# Altium footprint library GoldFinger_PcbLib.PcbLib: 14 footprints
Each footprint in its own frame and in the unit in brackets; x right, y up, seen from the top. Pads: shape width x height; smd on the part's side, far side on the other; paste and mask are expansions set on the pad; w line width, h text height; cw(c..) or ccw(c..) is an arc to the next point about the centre after c.
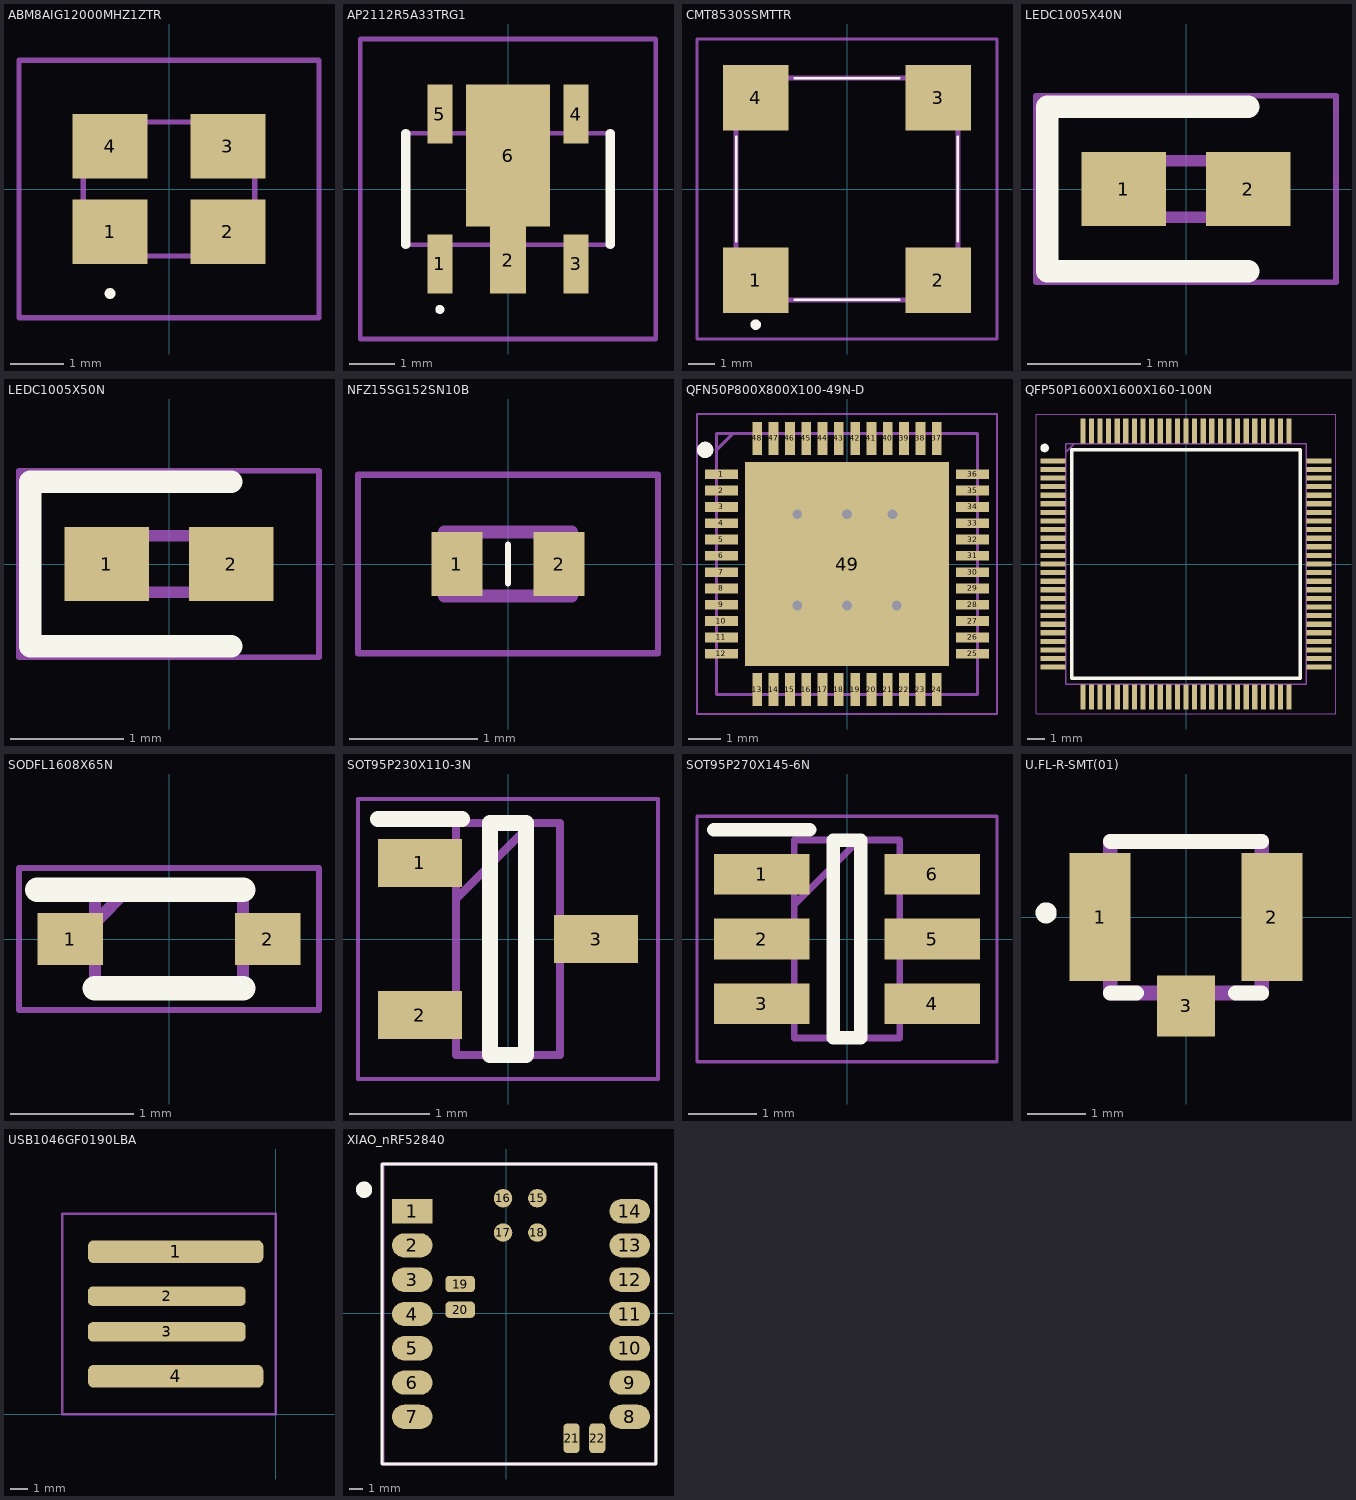
[diagram p0: the footprints below, top view; thin cyan lines are the x and y axes]

## ABM8AIG12000MHZ1ZTR [mm]
pads (4):
  rect 1.4x1.2 smd: 1(-1.1,-0.8) 2(1.1,-0.8) 3(1.1,0.8) 4(-1.1,0.8)
Top Overlay:
  lines w0.1: -1.1,-2 cw(c-1.1,-1.95) -1.1,-1.9 cw(c-1.1,-1.95) -1.1,-2
Mechanical 13:
  lines w0.1: -1.6,-1.25 -1.6,1.25 1.6,1.25 1.6,-1.25 -1.6,-1.25
Mechanical 15:
  lines w0.1: -2.8,-2.4 -2.8,2.4 2.8,2.4 2.8,-2.4 -2.8,-2.4
3D body "ABM8AIG-12.000MHZ-1Z-TR.stp": height 0.9, standoff 0, extent -1.68,-1.28 1.68,1.28

## AP2112R5A33TRG1 [mm]
pads (6):
  rect 0.55x1.3 smd: 1(-1.5,-1.65) 3(1.5,-1.65) 4(1.5,1.65) 5(-1.5,1.65)
  rect 0.8x1.475 smd: 2(0,-1.563)
  rect 1.85x3.125 smd: 6(0,0.737)
Top Overlay:
  lines w0.1: -1.5,-2.7 cw(c-1.5,-2.65) -1.5,-2.6 cw(c-1.5,-2.65) -1.5,-2.7
  lines w0.2: -2.25,-1.225 -2.25,1.225 ; 2.25,-1.225 2.25,1.225
Mechanical 13:
  lines w0.1: -2.25,-1.225 2.25,-1.225 2.25,1.225 -2.25,1.225 -2.25,-1.225
Mechanical 15:
  lines w0.1: -3.25,-3.3 3.25,-3.3 3.25,3.3 -3.25,3.3 -3.25,-3.3
3D body "AP2112R5A-3.3TRG1.stp": height 1.7, standoff 0, extent -2.25,-1.225 2.25,1.225

## CMT8530SSMTTR [mm]
pads (4):
  rect 2.5x2.5 smd: 1(-3.5,-3.5) 2(3.5,-3.5) 3(3.5,3.5) 4(-3.5,3.5)
Top Overlay:
  lines w0.1: -4.25,-2 -4.25,2 ; -2,-4.25 2,-4.25 ; -2,4.25 2,4.25 ; 4.25,-2 4.25,2
  lines w0.2: -3.6,-5.2 cw(c-3.5,-5.2) -3.4,-5.2 cw(c-3.5,-5.2) -3.6,-5.2
Mechanical 15:
  lines w0.2: -4.25,-4.25 -4.25,4.25 4.25,4.25 4.25,-4.25 -4.25,-4.25
Mechanical 20:
  lines w0.1: -5.75,-5.75 -5.75,5.75 5.75,5.75 5.75,-5.75 -5.75,-5.75
3D body "CUI_DEVICES_CMT-8530S-SMT-TR.step": height 3.01, standoff 0.01, extent -4.25,-4.191 4.25,4.309

## LEDC1005X40N [mm]
pads (2):
  rect 0.75x0.65 smd: 1(-0.55,0) 2(0.55,0)
Top Overlay:
  lines w0.2: 0.55,-0.725 -1.225,-0.725 -1.225,0.725 0.55,0.725
Mechanical 13:
  lines w0.1: -0.5,0.083 -0.333,0.25 ; -0.5,-0.25 0.5,-0.25 0.5,0.25 -0.5,0.25 -0.5,-0.25
Mechanical 15:
  lines w0.05: -1.325,-0.825 1.325,-0.825 1.325,0.825 -1.325,0.825 -1.325,-0.825
3D body "LW_QH8G-Q2OO-3K5L-1.stp": height 0.36, standoff 0, extent -0.53,-0.25 0.47,0.25

## LEDC1005X50N [mm]
pads (2):
  rect 0.75x0.65 smd: 1(-0.55,0) 2(0.55,0)
Top Overlay:
  lines w0.2: 0.55,-0.725 -1.225,-0.725 -1.225,0.725 0.55,0.725
Mechanical 13:
  lines w0.1: -0.5,0.083 -0.333,0.25 ; -0.5,-0.25 0.5,-0.25 0.5,0.25 -0.5,0.25 -0.5,-0.25
Mechanical 15:
  lines w0.05: -1.325,-0.825 1.325,-0.825 1.325,0.825 -1.325,0.825 -1.325,-0.825
3D body "150040VS73240.stp": height 0.4, standoff 0, extent -0.5,-0.25 0.5,0.25

## NFZ15SG152SN10B [mm]
pads (2):
  rect 0.4x0.5 smd: 1(-0.4,0) 2(0.4,0)
Top Overlay:
  lines w0.05: 0,-0.15 0,0.15
Mechanical 13:
  lines w0.1: -0.5,-0.25 0.5,-0.25 0.5,0.25 -0.5,0.25 -0.5,-0.25
Mechanical 15:
  lines w0.05: -1.175,-0.7 1.175,-0.7 1.175,0.7 -1.175,0.7 -1.175,-0.7
3D body "BLM15AX601SN1D.stp": height 0.5, standoff 0, extent -0.5,-0.25 0.5,0.25

## QFN50P800X800X100-49N-D [mm]
pads (49):
  rect 1x0.3 smd: 1(-3.85,2.75) 2(-3.85,2.25) 3(-3.85,1.75) 4(-3.85,1.25) 5(-3.85,0.75) 6(-3.85,0.25) 7(-3.85,-0.25) 8(-3.85,-0.75) 9(-3.85,-1.25) 10(-3.85,-1.75) 11(-3.85,-2.25) 12(-3.85,-2.75) 25(3.85,-2.75) 26(3.85,-2.25) 27(3.85,-1.75) 28(3.85,-1.25) 29(3.85,-0.75) 30(3.85,-0.25) 31(3.85,0.25) 32(3.85,0.75) 33(3.85,1.25) 34(3.85,1.75) 35(3.85,2.25) 36(3.85,2.75)
  rect 0.3x1 smd: 13(-2.75,-3.85) 14(-2.25,-3.85) 15(-1.75,-3.85) 16(-1.25,-3.85) 17(-0.75,-3.85) 18(-0.25,-3.85) 19(0.25,-3.85) 20(0.75,-3.85) 21(1.25,-3.85) 22(1.75,-3.85) 23(2.25,-3.85) 24(2.75,-3.85) 37(2.75,3.85) 38(2.25,3.85) 39(1.75,3.85) 40(1.25,3.85) 41(0.75,3.85) 42(0.25,3.85) 43(-0.25,3.85) 44(-0.75,3.85) 45(-1.25,3.85) 46(-1.75,3.85) 47(-2.25,3.85) 48(-2.75,3.85)
  rect 6.25x6.25 smd paste-40: 49(0,0)
via 1.524,-1.27 diameter 0.5 hole 0.3
via 0,-1.27 diameter 0.5 hole 0.3
via -1.524,-1.27 diameter 0.5 hole 0.3
via 1.397,1.524 diameter 0.5 hole 0.3
via 0,1.524 diameter 0.5 hole 0.3
via -1.524,1.524 diameter 0.5 hole 0.3
Top Overlay:
  circle w0.25: c-4.35,3.5 r0.125
Top Paste:
  rectangle: 1.667,-2.651 2.667,-1.651
  rectangle: 0.185,-2.651 1.185,-1.651
  rectangle: -1.296,-2.651 -0.296,-1.651
  rectangle: -2.778,-2.651 -1.778,-1.651
  rectangle: 1.667,-1.016 2.667,1.143
  rectangle: 0.185,-0.889 1.185,1.143
  rectangle: -1.296,-0.889 -0.296,1.143
  rectangle: -2.778,-0.889 -1.778,1.143
  rectangle: 1.667,1.794 2.667,2.794
  rectangle: 0.185,1.794 1.185,2.794
  rectangle: -1.296,1.794 -0.296,2.794
  rectangle: -2.778,1.794 -1.778,2.794
Mechanical 13:
  lines w0.1: -4,3.5 -3.5,4 ; -4,-4 -4,4 4,4 4,-4 -4,-4
Mechanical 15:
  lines w0.05: -4.6,-4.6 -4.6,4.6 4.6,4.6 4.6,-4.6 -4.6,-4.6
3D body "FT232HQ-REEL.stp": height 1, standoff 0, extent -4.05,-4.05 4.05,4.05

## QFP50P1600X1600X160-100N [mm]
pads (100):
  rect 1.475x0.3 smd: 1(-7.738,6) 2(-7.738,5.5) 3(-7.738,5) 4(-7.738,4.5) 5(-7.738,4) 6(-7.738,3.5) 7(-7.738,3) 8(-7.738,2.5) 9(-7.738,2) 10(-7.738,1.5) 11(-7.738,1) 12(-7.738,0.5) 13(-7.738,0) 14(-7.738,-0.5) 15(-7.738,-1) 16(-7.738,-1.5) 17(-7.738,-2) 18(-7.738,-2.5) 19(-7.738,-3) 20(-7.738,-3.5) 21(-7.738,-4) 22(-7.738,-4.5) 23(-7.738,-5) 24(-7.738,-5.5) 25(-7.738,-6) 51(7.738,-6) 52(7.738,-5.5) 53(7.738,-5) 54(7.738,-4.5) 55(7.738,-4) 56(7.738,-3.5) 57(7.738,-3) 58(7.738,-2.5) 59(7.738,-2) 60(7.738,-1.5) 61(7.738,-1) 62(7.738,-0.5) 63(7.738,0) 64(7.738,0.5) 65(7.738,1) 66(7.738,1.5) 67(7.738,2) 68(7.738,2.5) 69(7.738,3) 70(7.738,3.5) 71(7.738,4) 72(7.738,4.5) 73(7.738,5) 74(7.738,5.5) 75(7.738,6)
  rect 0.3x1.475 smd: 26(-6,-7.738) 27(-5.5,-7.738) 28(-5,-7.738) 29(-4.5,-7.738) 30(-4,-7.738) 31(-3.5,-7.738) 32(-3,-7.738) 33(-2.5,-7.738) 34(-2,-7.738) 35(-1.5,-7.738) 36(-1,-7.738) 37(-0.5,-7.738) 38(0,-7.738) 39(0.5,-7.738) 40(1,-7.738) 41(1.5,-7.738) 42(2,-7.738) 43(2.5,-7.738) 44(3,-7.738) 45(3.5,-7.738) 46(4,-7.738) 47(4.5,-7.738) 48(5,-7.738) 49(5.5,-7.738) 50(6,-7.738) 76(6,7.738) 77(5.5,7.738) 78(5,7.738) 79(4.5,7.738) 80(4,7.738) 81(3.5,7.738) 82(3,7.738) 83(2.5,7.738) 84(2,7.738) 85(1.5,7.738) 86(1,7.738) 87(0.5,7.738) 88(0,7.738) 89(-0.5,7.738) 90(-1,7.738) 91(-1.5,7.738) 92(-2,7.738) 93(-2.5,7.738) 94(-3,7.738) 95(-3.5,7.738) 96(-4,7.738) 97(-4.5,7.738) 98(-5,7.738) 99(-5.5,7.738) 100(-6,7.738)
Top Overlay:
  circle w0.25: c-8.225,6.75 r0.125
  lines w0.2: -6.65,-6.65 -6.65,6.65 6.65,6.65 6.65,-6.65 -6.65,-6.65
Mechanical 13:
  lines w0.1: -7,6.5 -6.5,7 ; -7,-7 -7,7 7,7 7,-7 -7,-7
Mechanical 15:
  lines w0.05: -8.725,-8.725 -8.725,8.725 8.725,8.725 8.725,-8.725 -8.725,-8.725
3D body "STM32F407VET6.stp": height 1.6, standoff 0, extent -8,-8 8,8

## SODFL1608X65N [mm]
pads (2):
  rect 0.53x0.42 smd: 1(-0.8,0) 2(0.8,0)
Top Overlay:
  lines w0.2: -1.065,0.4 0.6,0.4 ; -0.6,-0.4 0.6,-0.4
Mechanical 15:
  lines w0.1: -0.6,0.135 -0.335,0.4 ; -0.6,-0.4 0.6,-0.4 0.6,0.4 -0.6,0.4 -0.6,-0.4
Mechanical 20:
  lines w0.05: -1.215,-0.575 1.215,-0.575 1.215,0.575 -1.215,0.575 -1.215,-0.575
3D body "BAS716,115.stp": height 0.63, standoff 0.01, extent -0.801,-0.418 0.799,0.412

## SOT95P230X110-3N [mm]
pads (3):
  rect 1.05x0.6 smd: 1(-1.1,0.95) 2(-1.1,-0.95) 3(1.1,0)
Top Overlay:
  lines w0.2: -1.625,1.5 -0.575,1.5 ; -0.225,-1.45 -0.225,1.45 0.225,1.45 0.225,-1.45 -0.225,-1.45
Mechanical 13:
  lines w0.1: -0.65,0.5 0.3,1.45 ; -0.65,-1.45 -0.65,1.45 0.65,1.45 0.65,-1.45 -0.65,-1.45
Mechanical 15:
  lines w0.05: -1.875,-1.75 -1.875,1.75 1.875,1.75 1.875,-1.75 -1.875,-1.75
3D body "2N7002NXAKR.stp": height 0.95, standoff 0, extent -1.201,-1.448 1.199,1.452

## SOT95P270X145-6N [mm]
pads (6):
  rect 1.4x0.6 smd: 1(-1.25,0.95) 2(-1.25,0) 3(-1.25,-0.95) 4(1.25,-0.95) 5(1.25,0) 6(1.25,0.95)
Top Overlay:
  lines w0.2: -1.95,1.6 -0.55,1.6 ; -0.2,-1.45 -0.2,1.45 0.2,1.45 0.2,-1.45 -0.2,-1.45
Mechanical 13:
  lines w0.1: -0.775,0.5 0.175,1.45 ; -0.775,-1.45 -0.775,1.45 0.775,1.45 0.775,-1.45 -0.775,-1.45
Mechanical 15:
  lines w0.05: -2.2,-1.8 -2.2,1.8 2.2,1.8 2.2,-1.8 -2.2,-1.8
3D body "93LC56BT-I_OT.stp": height 1.45, standoff 0, extent -1.35,-1.45 1.35,1.45

## U.FL-R-SMT(01) [mm]
pads (3):
  rect 1.05x2.2 smd: 1(-1.475,0) 2(1.475,0)
  rect 1x1.05 smd: 3(0,-1.525)
Top Overlay:
  circle w0.254: c-2.401,0.074 r0.054
  lines w0.254: -1.3,-1.3 -0.85,-1.3 ; -1.3,1.3 1.3,1.3 ; 0.85,-1.3 1.3,-1.3
Mechanical 13:
  lines w0.254: -1.3,-1.3 -1.3,1.3 1.3,1.3 1.3,-1.3 -1.3,-1.3
3D body "U.FL-R-SMT-1_01_.stp": height 1.25, standoff 0, extent -1.76,-1.8 1.24,1.3

## USB1046GF0190LBA [mm]
pads (4):
  rrect50% 10x1.3 smd: 1(-5.715,9.271) 4(-5.715,2.159)
  rrect50% 9x1.1 smd: 2(-6.223,6.731) 3(-6.223,4.699)
Mechanical 13:
  lines w0.15: -12.192,0 0,0 0,11.43 -12.192,11.43 -12.192,0

## XIAO_nRF52840 [mm]
pads (22):
  rect 3x1.8 smd: 1(-6.972,7.556)
  oval 3x1.8 smd: 2(-6.967,5.016) 3(-6.967,2.476) 4(-6.967,-0.064) 5(-6.967,-2.603) 6(-6.967,-5.143) 7(-6.967,-7.683) 8(9.134,-7.683) 9(9.134,-5.143) 10(9.134,-2.603) 11(9.134,-0.064) 12(9.134,2.476) 13(9.134,5.016) 14(9.134,7.556)
  round 1.37 smd: 15(2.291,8.509) 16(-0.249,8.509) 17(-0.249,5.969) 18(2.291,5.969)
  rrect50% 2.2x1.2 smd: 19(-3.424,2.159) 20(-3.424,0.254)
  rrect50% 1.2x2.2 smd: 21(4.826,-9.266) 22(6.731,-9.266)
Top Overlay:
  circle w1: c-10.541,9.144 r0.1
  lines w0.2: -9.215,-11.176 11.079,-11.176 11.079,11.049 -9.215,11.049 -9.215,-11.176
Mechanical 5:
  circle w0.5: c-10.541,9.144 r0.3
  lines w0.254: -9.144,-11.176 -9.144,11.049 11.049,11.049 11.049,-11.176 -9.144,-11.176
  text ".Designator" at -0.635,-0.635 h4
3D body "Seeed Studio XIAO RP2040 v26.step": height 4.41, standoff 0, extent -7.747,-10.57 9.753,11.43